# Altium footprint library Custom.PcbLib: 446 footprints (part 26 of 28)
Each footprint in its own frame and in the unit in brackets; x right, y up, seen from the top. Pads: shape width x height; smd on the part's side, far side on the other; paste and mask are expansions set on the pad; w line width, h text height; cw(c..) or ccw(c..) is an arc to the next point about the centre after c.
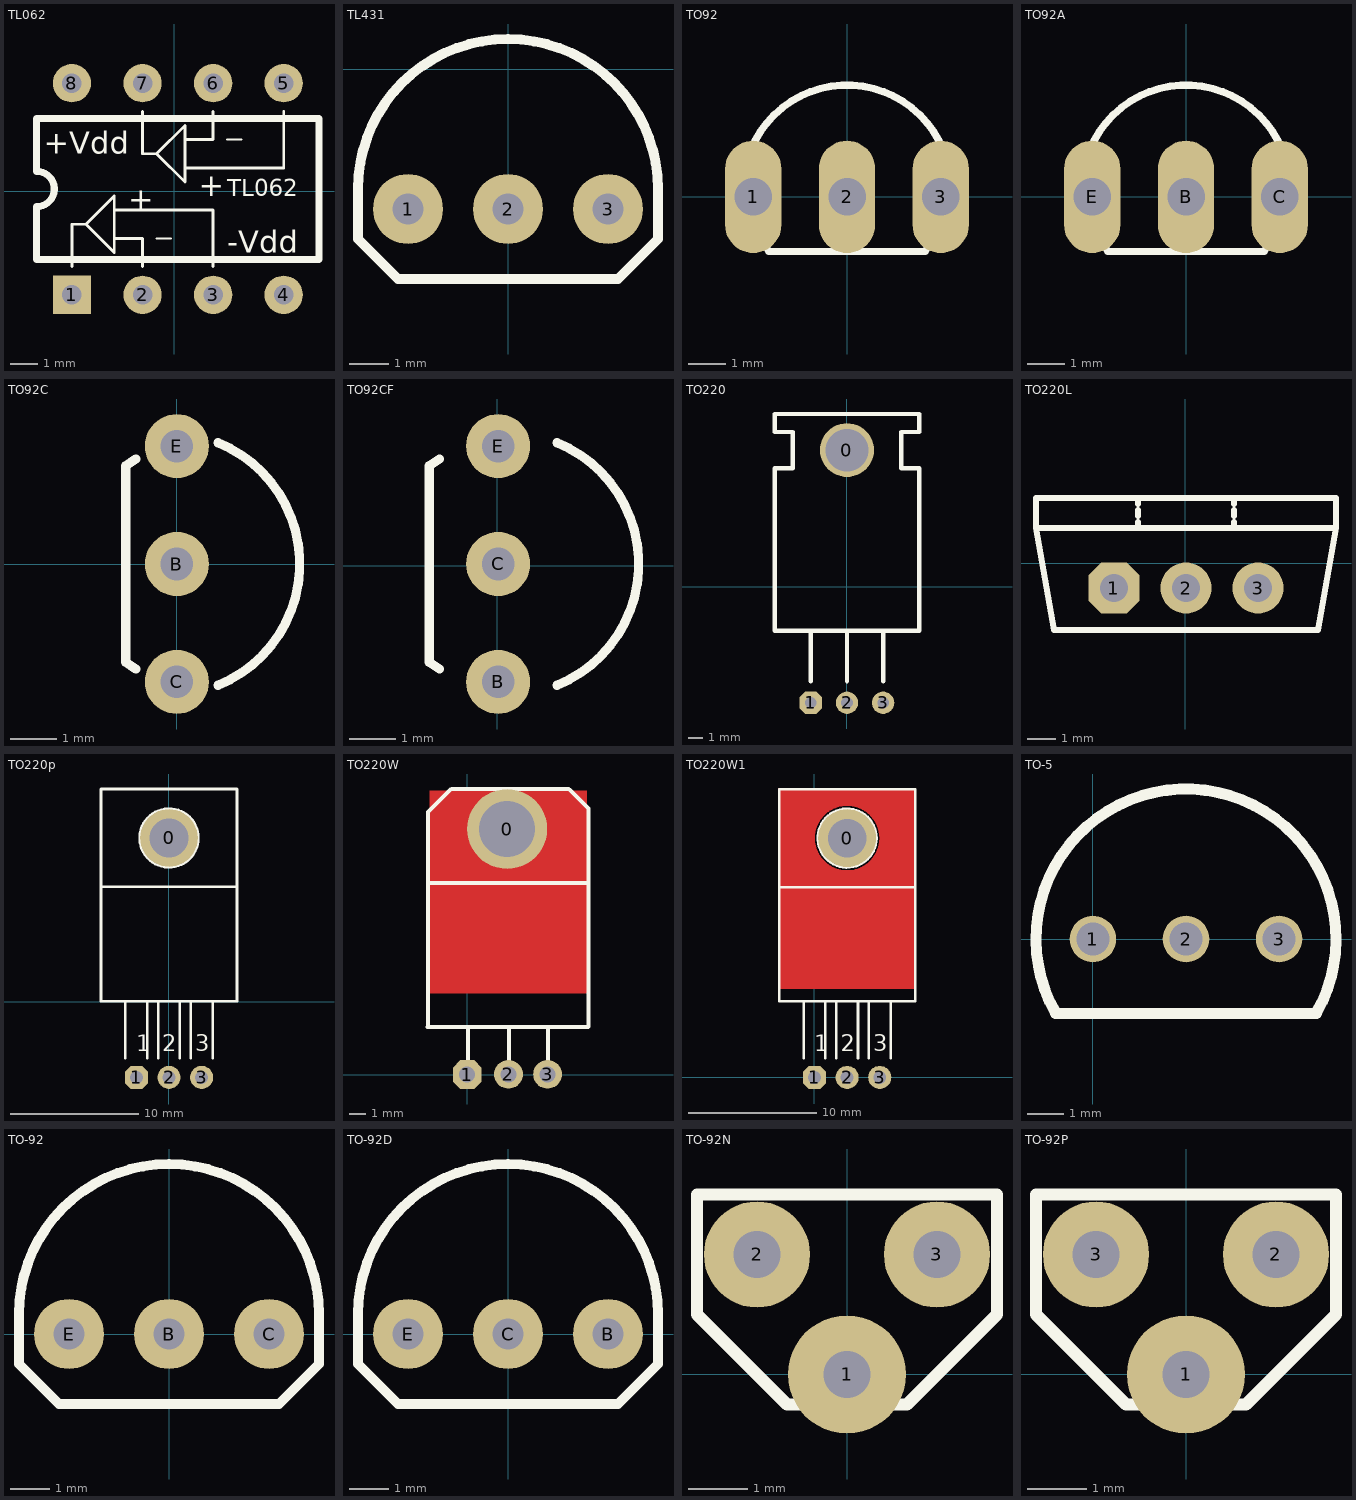
[diagram p25: the footprints below, top view; thin cyan lines are the x and y axes]

## TL062 [mm]
pads (8):
  rect 1.38x1.38 hole 0.7: 1(-3.676,-3.723)
  round 1.38 hole 0.7: 2(-1.136,-3.723) 3(1.404,-3.723) 4(3.944,-3.723) 5(3.944,3.897) 6(1.404,3.897) 7(-1.136,3.897) 8(-3.676,3.897)
Top Overlay:
  lines w0.081: -0.628,-1.691 -0.12,-1.691 ; 1.912,1.865 2.42,1.865
  lines w0.103: -3.676,-2.707 -3.676,-1.183 -3.168,-1.183 ; -2.152,-1.691 -1.136,-1.691 -1.136,-2.707 ; -2.152,-0.675 1.404,-0.675 1.404,-2.707 ; -1.136,2.881 -1.136,1.357 -0.628,1.357 ; 0.388,0.849 3.944,0.849 3.944,2.881 ; 0.388,1.865 1.404,1.865 1.404,2.881 ; -3.168,-1.183 -2.152,-2.199 -2.152,-0.167 -3.168,-1.183 ; -0.628,1.357 0.388,0.341 0.388,2.373 -0.628,1.357
  lines w0.254: -4.946,-2.453 -4.946,-0.548 ccw(c-4.946,0.087) -4.946,0.722 -4.946,2.627 5.214,2.627 5.214,-2.453 -4.946,-2.453
  text "TL062" at 1.912,-0.167 h0.6
  text "+" at 0.896,-0.167 h0.8
  text "+" at -1.644,-0.675 h0.8
  text "+Vdd" at -4.692,1.357 h0.8
  text "-Vdd" at 1.912,-2.199 h0.8

## TL431 [mil]
pads (3):
  round 70 hole 31.5: 1(-100,-140) 2(0,-140) 3(100,-140)
Top Overlay:
  lines w10: -150,-170 -110,-210 110,-210 150,-170 150,-120 ccw(c0,-120) -150,-120 -150,-170

## TO92 [mil]
pads (3):
  oval 60x120 hole 40: 1(-100,0) 2(0,0) 3(100,0)
Top Overlay:
  lines w7.87: -102.76,49.85 cw(c0,8.33) 102.76,49.85 ; -89.08,-49.71 -83.33,-58.33 83.33,-58.33 89.08,-49.71

## TO92A [mil]
pads (3):
  oval 60x120 hole 40: B(0,0) C(100,0) E(-100,0)
Top Overlay:
  lines w7.87: -102.76,49.85 cw(c0,8.33) 102.76,49.85 ; -89.08,-49.71 -83.33,-58.33 83.33,-58.33 89.08,-49.71

## TO92C [mm]
pads (3):
  round 1.38 hole 0.7: B(0,0) C(0,-2.54) E(0,2.54)
Top Overlay:
  lines w0.2: -0.882,-2.263 -1.101,-2.117 -1.101,2.117 -0.882,2.263 ; 0.885,-2.61 ccw(c-0.169,0) 0.885,2.61

## TO92CF [mm]
pads (3):
  round 1.38 hole 0.7: B(0.02,-2.5) C(0.02,0.04) E(0.02,2.58)
Top Overlay:
  lines w0.2: -1.243,-2.223 -1.462,-2.077 -1.462,2.157 -1.243,2.303 ; 1.286,-2.57 ccw(c0.232,0.04) 1.286,2.65

## TO220 [mil]
pads (4):
  round 149.61 hole 118.11: 0(0.87,378.82)
  oct 62x62 hole 32: 1(-99.13,-321.18)
  round 62 hole 32: 2(0.87,-321.18) 3(100.87,-321.18)
Top Overlay:
  lines w12: -99.13,-261.18 -99.13,-121.18 ; 0.87,-261.18 0.87,-121.18 ; 100.87,-261.18 100.87,-121.18 ; -199.13,-121.18 -199.13,328.82 -149.13,328.82 -149.13,428.82 -199.13,428.82 -199.13,478.82 200.87,478.82 200.87,428.82 150.87,428.82 150.87,328.82 200.87,328.82 200.87,-121.18 -199.13,-121.18

## TO220L [mm]
pads (3):
  oct 1.8x1.8 hole 1: 1(-2.514,-0.876)
  round 1.8 hole 1: 2(0.026,-0.876) 3(2.566,-0.876)
Top Overlay:
  lines w0.2: -1.667,1.241 -1.667,1.452 ; -1.667,1.664 -1.667,1.876 ; -1.667,2.087 -1.667,2.299 ; 1.719,1.241 1.719,1.452 ; 1.719,1.664 1.719,1.876 ; 1.719,2.087 1.719,2.299 ; -5.266,1.241 -5.266,2.299 5.318,2.299 5.318,1.241 ; -5.266,1.241 -4.631,-2.358 4.683,-2.358 5.318,1.241 ; -5.266,1.241 5.318,1.241

## TO220p [mm]
pads (4):
  round 4.5 hole 3: 0(0.026,12.739)
  oct 1.8x1.8 hole 1: 1(-2.514,-5.888)
  round 1.8 hole 1: 2(0.026,-5.888) 3(2.566,-5.888)
Top Overlay:
  circle w0.203: c0.026,12.739 r2.286
  lines w0.2: -5.266,8.929 5.318,8.929 ; -3.361,-4.406 -3.361,0.039 ; -1.667,-4.406 -1.667,0.039 ; -0.821,-4.406 -0.821,0.039 ; 0.873,-4.406 0.873,0.039 ; 1.719,-4.406 1.719,0.039 ; 3.413,-4.406 3.413,0.039 ; -5.266,0.039 5.318,0.039 5.318,16.549 -5.266,16.549 -5.266,0.039
  text "1" at -2.514,-3.856 h1.27
  text "2" at -0.482,-3.856 h1.27
  text "3" at 2.058,-3.856 h1.27

## TO220W [mm]
pads (4):
  round 5 hole 3.5: 0(2.5,15.34)
  oct 1.8x1.8 hole 1: 1(0,0)
  round 1.8 hole 1: 2(2.58,0.02) 3(5.02,0.02)
Top Layer:
  rectangle: -2.36,5.08 7.48,17.76
Top Overlay:
  lines w0.254: -2.48,2.98 7.56,2.98 ; -2.46,3.04 -2.46,16.02 ; -2.46,11.98 7.56,11.98 ; -2.46,15.9 -2.46,16.4 ; -2.42,16.42 -1.04,17.8 ; -0.96,17.84 6.32,17.84 ; 0.06,0.42 0.06,2.96 ; 2.62,0.34 2.62,2.92 ; 5.06,0.4 5.06,2.92 ; 6.42,17.78 7.58,16.62 7.58,15.84 ; 7.58,3 7.58,15.9
Top Paste:
  rectangle: -2.34,5.16 7.44,17.66

## TO220W1 [mm]
pads (4):
  round 4.5 hole 3: 0(2.54,18.627)
  oct 1.8x1.8 hole 1: 1(0,0)
  round 1.8 hole 1: 2(2.54,0) 3(5.08,0)
Top Layer:
  circle w0.16: c2.54,18.627 r2.584
  lines w0.16: -2.769,7.011 7.797,7.011 ; -2.769,7.171 7.797,7.171 ; -2.769,7.331 7.797,7.331 ; -2.769,7.491 7.797,7.491 ; -2.769,7.651 7.797,7.651 ; -2.769,7.811 7.797,7.811 ; -2.769,7.971 7.797,7.971 ; -2.769,8.131 7.797,8.131 ; -2.769,8.291 7.797,8.291 ; -2.769,8.451 7.797,8.451 ; -2.769,8.611 7.797,8.611 ; -2.769,8.771 7.797,8.771 ; -2.769,8.931 7.797,8.931 ; -2.769,9.091 7.797,9.091 ; -2.769,9.251 7.797,9.251 ; -2.769,9.411 7.797,9.411 ; -2.769,9.571 7.797,9.571 ; -2.769,9.731 7.797,9.731 ; -2.769,9.891 7.797,9.891 ; -2.769,10.051 7.797,10.051 ; -2.769,10.211 7.797,10.211 ; -2.769,10.371 7.797,10.371 ; -2.769,10.531 7.797,10.531 ; -2.769,10.691 7.797,10.691 ; -2.769,10.851 7.797,10.851 ; -2.769,11.011 7.797,11.011 ; -2.769,11.171 7.797,11.171 ; -2.769,11.331 7.797,11.331 ; -2.769,11.491 7.797,11.491 ; -2.769,11.651 7.797,11.651 ; -2.769,11.811 7.797,11.811 ; -2.769,11.971 7.797,11.971 ; -2.769,12.131 7.797,12.131 ; -2.769,12.291 7.797,12.291 ; -2.769,12.451 7.797,12.451 ; -2.769,12.611 7.797,12.611 ; -2.769,12.771 7.797,12.771 ; -2.769,12.931 7.797,12.931 ; -2.769,13.091 7.797,13.091 ; -2.769,13.251 7.797,13.251 ; -2.769,13.411 7.797,13.411 ; -2.769,13.571 7.797,13.571 ; -2.769,13.731 7.797,13.731 ; -2.769,13.891 7.797,13.891 ; -2.769,14.051 7.797,14.051 ; -2.769,14.211 7.797,14.211 ; -2.769,14.371 7.797,14.371 ; -2.769,14.531 7.797,14.531 ; -2.769,14.691 7.797,14.691 ; -2.769,14.851 7.797,14.851 ; -2.769,15.011 7.797,15.011 ; -2.769,15.171 7.797,15.171 ; -2.769,15.331 7.797,15.331 ; -2.769,15.491 7.797,15.491 ; -2.769,15.651 7.797,15.651 ; -2.769,15.811 7.797,15.811 ; -2.769,15.971 7.797,15.971 ; -2.769,16.131 1.871,16.131 ; -2.769,16.291 1.435,16.291 ; -2.769,16.451 1.146,16.451 ; -2.769,16.611 0.923,16.611 ; -2.769,16.771 0.742,16.771 ; -2.769,16.931 0.59,16.931 ; -2.769,17.091 0.462,17.091 ; -2.769,17.251 0.353,17.251 ; -2.769,17.411 0.26,17.411 ; -2.769,17.571 0.182,17.571 ; -2.769,17.731 0.116,17.731 ; -2.769,17.891 0.063,17.891 ; -2.769,18.051 0.021,18.051 ; -2.769,18.211 -0.01,18.211 ; -2.769,18.371 -0.031,18.371 ; -2.769,18.531 -0.042,18.531 ; -2.769,18.691 -0.043,18.691 ; -2.769,18.851 -0.034,18.851 ; -2.769,19.011 -0.015,19.011 ; -2.769,19.171 0.014,19.171 ; -2.769,19.331 0.054,19.331 ; -2.769,19.491 0.105,19.491 ; -2.769,19.651 0.168,19.651 ; -2.769,19.811 0.243,19.811 ; -2.769,19.971 0.333,19.971 ; -2.769,20.131 0.439,20.131 ; -2.769,20.291 0.563,20.291 ; -2.769,20.451 0.71,20.451 ; -2.769,20.611 0.885,20.611 ; -2.769,20.771 1.098,20.771 ; -2.769,20.931 1.37,20.931 ; -2.769,21.091 1.762,21.091 ; -2.769,21.251 7.797,21.251 ; -2.769,21.411 7.797,21.411 ; -2.769,21.571 7.797,21.571 ; -2.769,21.731 7.797,21.731 ; -2.769,21.891 7.797,21.891 ; -2.769,22.051 7.797,22.051 ; -2.769,22.211 7.797,22.211 ; -2.769,22.371 7.797,22.371 ; -2.767,6.955 -2.767,22.449 ; -2.607,6.955 -2.607,22.449 ; -2.447,6.955 -2.447,22.449 ; -2.287,6.955 -2.287,22.449 ; -2.127,6.955 -2.127,22.449 ; -1.967,6.955 -1.967,22.449 ; -1.807,6.955 -1.807,22.449 ; -1.647,6.955 -1.647,22.449 ; -1.487,6.955 -1.487,22.449 ; -1.327,6.955 -1.327,22.449 ; -1.167,6.955 -1.167,22.449 ; -1.007,6.955 -1.007,22.449 ; -0.847,6.955 -0.847,22.449 ; -0.687,6.955 -0.687,22.449 ; -0.527,6.955 -0.527,22.449 ; -0.367,6.955 -0.367,22.449 ; -0.207,6.955 -0.207,22.449 ; -0.047,6.955 -0.047,22.449 ; 0.113,6.955 0.113,17.74 ; 0.113,19.513 0.113,22.449 ; 0.273,6.955 0.273,17.387 ; 0.273,19.867 0.273,22.449 ; 0.433,6.955 0.433,17.131 ; 0.433,20.122 0.433,22.449 ; 0.593,6.955 0.593,16.928 ; 0.593,20.325 0.593,22.449 ; 0.753,6.955 0.753,16.76 ; 0.753,20.493 0.753,22.449 ; 0.913,6.955 0.913,16.619 ; 0.913,20.634 0.913,22.449 ; 1.073,6.955 1.073,16.5 ; 1.073,20.754 1.073,22.449 ; 1.233,6.955 1.233,16.398 ; 1.233,20.856 1.233,22.449 ; 1.393,6.955 1.393,16.311 ; 1.393,20.942 1.393,22.449 ; 1.553,6.955 1.553,16.239 ; 1.553,21.015 1.553,22.449 ; 1.713,6.955 1.713,16.179 ; 1.713,21.075 1.713,22.449 ; 1.873,6.955 1.873,16.13 ; 1.873,21.123 1.873,22.449 ; 2.033,6.955 2.033,16.093 ; 2.033,21.16 2.033,22.449 ; 2.193,6.955 2.193,16.066 ; 2.193,21.187 2.193,22.449 ; 2.353,6.955 2.353,16.049 ; 2.353,21.204 2.353,22.449 ; 2.513,6.955 2.513,16.043 ; 2.513,21.211 2.513,22.449 ; 2.673,6.955 2.673,16.046 ; 2.673,21.207 2.673,22.449 ; 2.833,6.955 2.833,16.059 ; 2.833,21.194 2.833,22.449 ; 2.993,6.955 2.993,16.083 ; 2.993,21.171 2.993,22.449 ; 3.153,6.955 3.153,16.116 ; 3.153,21.137 3.153,22.449 ; 3.209,16.131 7.797,16.131 ; 3.313,6.955 3.313,16.161 ; 3.313,21.092 3.313,22.449 ; 3.318,21.091 7.797,21.091 ; 3.473,6.955 3.473,16.217 ; 3.473,21.036 3.473,22.449 ; 3.633,6.955 3.633,16.285 ; 3.633,20.968 3.633,22.449 ; 3.645,16.291 7.797,16.291 ; 3.71,20.931 7.797,20.931 ; 3.793,6.955 3.793,16.367 ; 3.793,20.887 3.793,22.449 ; 3.934,16.451 7.797,16.451 ; 3.953,6.955 3.953,16.463 ; 3.953,20.79 3.953,22.449 ; 3.982,20.771 7.797,20.771 ; 4.113,6.955 4.113,16.577 ; 4.113,20.677 4.113,22.449 ; 4.157,16.611 7.797,16.611 ; 4.195,20.611 7.797,20.611 ; 4.273,6.955 4.273,16.71 ; 4.273,20.543 4.273,22.449 ; 4.338,16.771 7.797,16.771 ; 4.37,20.451 7.797,20.451 ; 4.433,6.955 4.433,16.868 ; 4.433,20.386 4.433,22.449 ; 4.49,16.931 7.797,16.931 ; 4.517,20.291 7.797,20.291 ; 4.593,6.955 4.593,17.057 ; 4.593,20.196 4.593,22.449 ; 4.618,17.091 7.797,17.091 ; 4.641,20.131 7.797,20.131 ; 4.727,17.251 7.797,17.251 ; 4.747,19.971 7.797,19.971 ; 4.753,6.955 4.753,17.293 ; 4.753,19.961 4.753,22.449 ; 4.82,17.411 7.797,17.411 ; 4.837,19.811 7.797,19.811 ; 4.898,17.571 7.797,17.571 ; 4.913,6.955 4.913,17.604 ; 4.913,19.65 4.913,22.449 ; 4.912,19.651 7.797,19.651 ; 4.964,17.731 7.797,17.731 ; 4.975,19.491 7.797,19.491 ; 5.017,17.891 7.797,17.891 ; 5.026,19.331 7.797,19.331 ; 5.059,18.051 7.797,18.051 ; 5.066,19.171 7.797,19.171 ; 5.073,6.955 5.073,18.115 ; 5.073,19.138 5.073,22.449 ; 5.09,18.211 7.797,18.211 ; 5.095,19.011 7.797,19.011 ; 5.111,18.371 7.797,18.371 ; 5.114,18.851 7.797,18.851 ; 5.122,18.531 7.797,18.531 ; 5.123,18.691 7.797,18.691 ; 5.233,6.955 5.233,22.449 ; 5.393,6.955 5.393,22.449 ; 5.553,6.955 5.553,22.449 ; 5.713,6.955 5.713,22.449 ; 5.873,6.955 5.873,22.449 ; 6.033,6.955 6.033,22.449 ; 6.193,6.955 6.193,22.449 ; 6.353,6.955 6.353,22.449 ; 6.513,6.955 6.513,22.449 ; 6.673,6.955 6.673,22.449 ; 6.833,6.955 6.833,22.449 ; 6.993,6.955 6.993,22.449 ; 7.153,6.955 7.153,22.449 ; 7.313,6.955 7.313,22.449 ; 7.473,6.955 7.473,22.449 ; 7.633,6.955 7.633,22.449 ; 7.793,6.955 7.793,22.449 ; -2.769,6.955 7.797,6.955 7.797,22.449 -2.769,22.449 -2.769,6.955
Top Overlay:
  circle w0.203: c2.54,18.627 r2.286
  lines w0.2: -2.752,14.817 7.832,14.817 ; -0.847,1.482 -0.847,5.927 ; 0.847,1.482 0.847,5.927 ; 1.693,1.482 1.693,5.927 ; 3.387,1.482 3.387,5.927 ; 4.233,1.482 4.233,5.927 ; 5.927,1.482 5.927,5.927 ; -2.752,5.927 7.832,5.927 7.832,22.437 -2.752,22.437 -2.752,5.927
  text "1" at 0,2.032 h1.27
  text "2" at 2.032,2.032 h1.27
  text "3" at 4.572,2.032 h1.27

## TO-5 [mm]
pads (3):
  round 1.27 hole 0.9: 1(0,0) 2(2.54,0) 3(5.08,0)
Top Overlay:
  lines w0.305: -1.016,-2.032 cw(c2.54,0) 6.096,-2.032 -1.016,-2.032

## TO-92 [mil]
pads (3):
  round 70 hole 31.5: B(0,0) C(100,0) E(-100,0)
Top Overlay:
  lines w10: -150,-30 -150,20 cw(c0,20) 150,20 150,-30 110,-70 -110,-70 -150,-30

## TO-92D [mil]
pads (3):
  round 70 hole 31.5: B(100,0) C(0,0) E(-100,0)
Top Overlay:
  lines w10: -150,-30 -110,-70 110,-70 150,-30 150,20 ccw(c0,20) -150,20 -150,-30

## TO-92N [mm]
pads (3):
  round 2 hole 0.8: 1(0,0)
  round 1.8 hole 0.8: 2(-1.524,2.032) 3(1.524,2.032)
Top Overlay:
  lines w0.203: -2.54,1.016 -2.54,3.048 2.54,3.048 2.54,1.016 1.016,-0.508 -1.016,-0.508 -2.54,1.016

## TO-92P [mm]
pads (3):
  round 2 hole 0.8: 1(0,0)
  round 1.8 hole 0.8: 2(1.524,2.032) 3(-1.524,2.032)
Top Overlay:
  lines w0.203: -2.54,1.016 -2.54,3.048 2.54,3.048 2.54,1.016 1.016,-0.508 -1.016,-0.508 -2.54,1.016